# Altium footprint library PcbLib1.PcbLib: 202 footprints (part 8 of 13)
Each footprint in its own frame and in the unit in brackets; x right, y up, seen from the top. Pads: shape width x height; smd on the part's side, far side on the other; paste and mask are expansions set on the pad; w line width, h text height; cw(c..) or ccw(c..) is an arc to the next point about the centre after c.
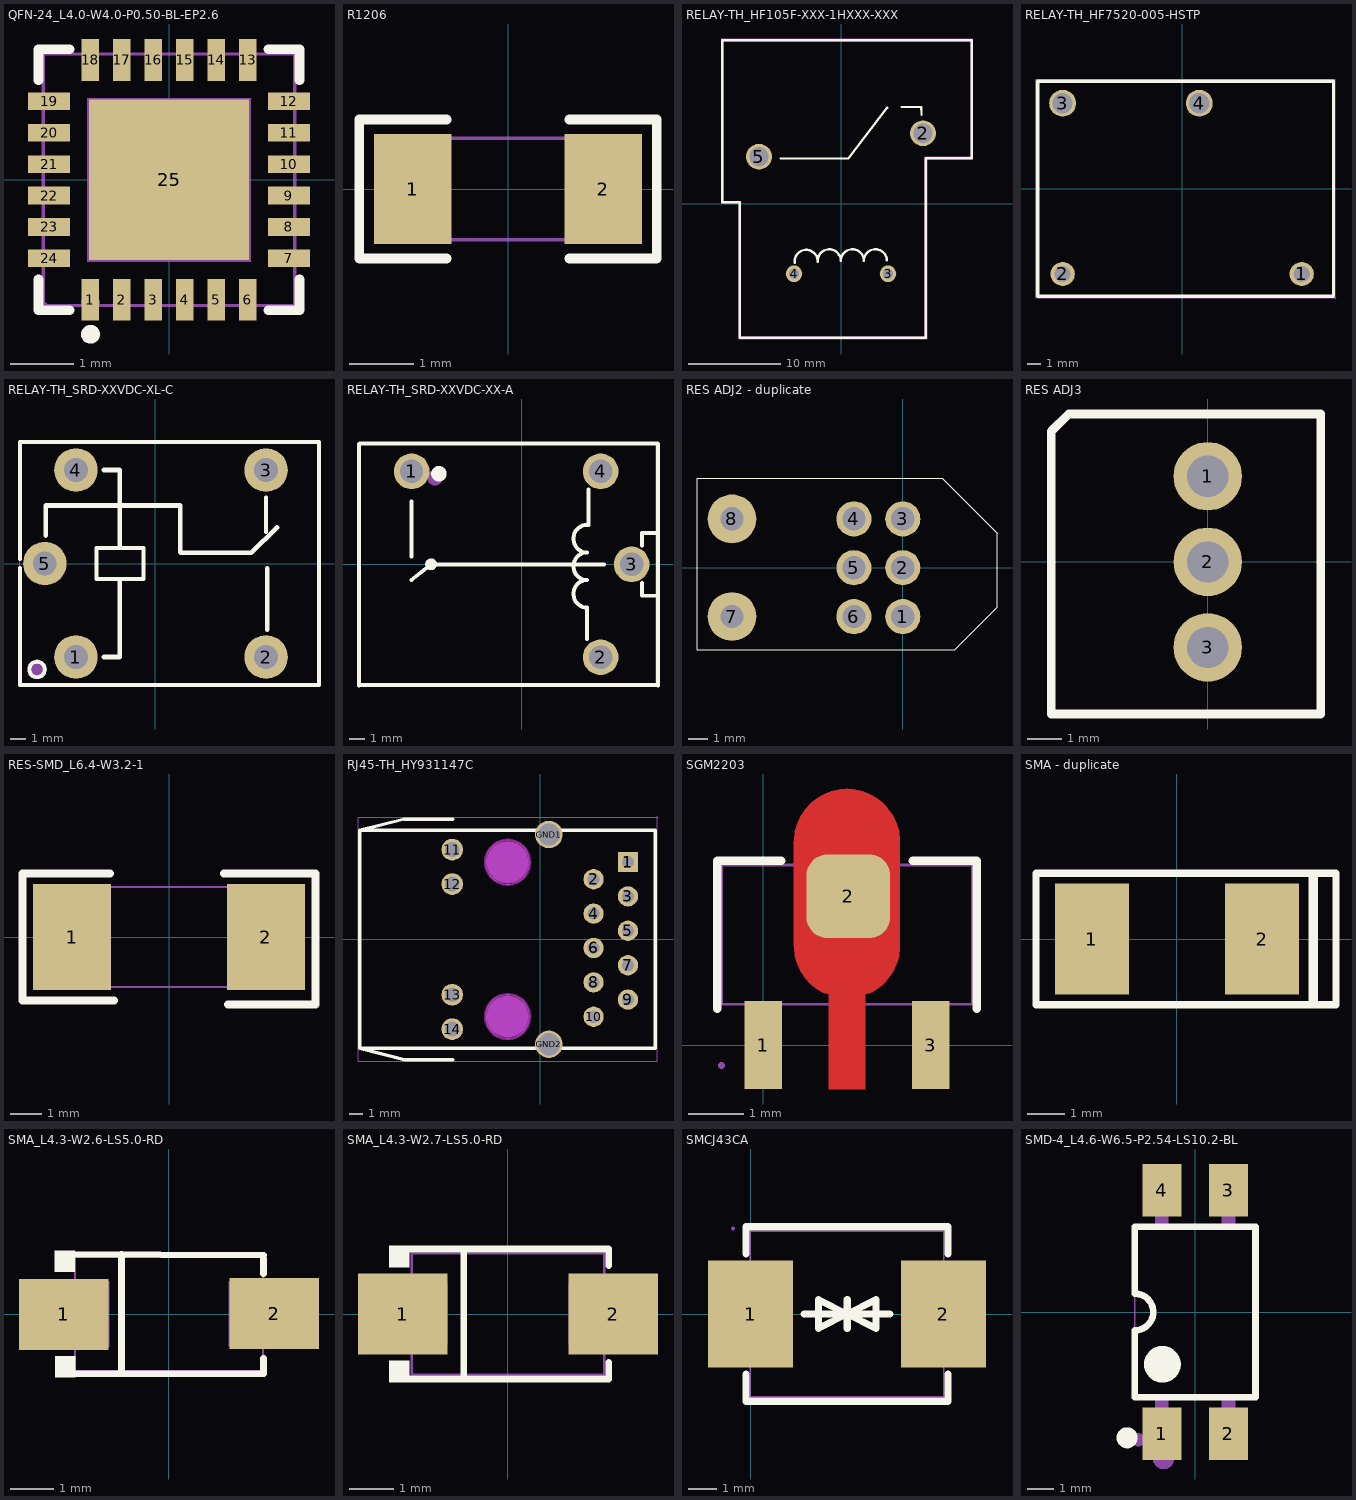
[diagram p7: the footprints below, top view; thin cyan lines are the x and y axes]

## QFN-24_L4.0-W4.0-P0.50-BL-EP2.6 [mm]
pads (25):
  rect 0.28x0.665 smd paste-100 mask+0.05: 1(-1.25,-1.908) 2(-0.75,-1.908) 3(-0.25,-1.908) 4(0.25,-1.908) 5(0.75,-1.908) 6(1.25,-1.908) 13(1.25,1.908) 14(0.75,1.908) 15(0.25,1.908) 16(-0.25,1.908) 17(-0.75,1.908) 18(-1.25,1.908)
  rect 0.665x0.28 smd paste-100 mask+0.05: 7(1.908,-1.25) 8(1.908,-0.75) 9(1.908,-0.25) 10(1.908,0.25) 11(1.908,0.75) 12(1.908,1.25) 19(-1.908,1.25) 20(-1.908,0.75) 21(-1.908,0.25) 22(-1.908,-0.25) 23(-1.908,-0.75) 24(-1.908,-1.25)
  rect 2.55x2.55 smd paste-100 mask+0.05: 25(0,0)
Top Overlay:
  circle w0.15: c-1.25,-2.458 r0.075
  lines w0.152: -2.076,-1.58 -2.076,-2.076 -1.58,-2.076 ; -2.076,1.58 -2.076,2.076 -1.58,2.076 ; 1.58,-2.076 2.076,-2.076 2.076,-1.58 ; 1.58,2.076 2.076,2.076 2.076,1.58
Top Paste:
  region: -1.575,-1.39 -1.575,-1.11 -2.24,-1.11 -2.24,-1.39
  region: -1.575,-0.89 -1.575,-0.61 -2.24,-0.61 -2.24,-0.89
  region: -1.575,-0.39 -1.575,-0.11 -2.24,-0.11 -2.24,-0.39
  region: -1.575,0.11 -1.575,0.39 -2.24,0.39 -2.24,0.11
  region: -1.575,0.61 -1.575,0.89 -2.24,0.89 -2.24,0.61
  region: -1.575,1.11 -1.575,1.39 -2.24,1.39 -2.24,1.11
  region: -1.39,2.24 -1.39,1.575 -1.11,1.575 -1.11,2.24
  region: -0.89,2.24 -0.89,1.575 -0.61,1.575 -0.61,2.24
  region: -0.39,2.24 -0.39,1.575 -0.11,1.575 -0.11,2.24
  region: 0.11,2.24 0.11,1.575 0.39,1.575 0.39,2.24
  region: 0.61,2.24 0.61,1.575 0.89,1.575 0.89,2.24
  region: 1.11,2.24 1.11,1.575 1.39,1.575 1.39,2.24
  region: 2.24,1.11 2.24,1.39 1.575,1.39 1.575,1.11
  region: 2.24,0.61 2.24,0.89 1.575,0.89 1.575,0.61
  region: 2.24,0.11 2.24,0.39 1.575,0.39 1.575,0.11
  region: 2.24,-0.39 2.24,-0.11 1.575,-0.11 1.575,-0.39
  region: 2.24,-0.89 2.24,-0.61 1.575,-0.61 1.575,-0.89
  region: 2.24,-1.39 2.24,-1.11 1.575,-1.11 1.575,-1.39
  region: 1.11,-2.24 1.11,-1.575 1.39,-1.575 1.39,-2.24
  region: 0.61,-2.24 0.61,-1.575 0.89,-1.575 0.89,-2.24
  region: 0.11,-2.24 0.11,-1.575 0.39,-1.575 0.39,-2.24
  region: -0.39,-2.24 -0.39,-1.575 -0.11,-1.575 -0.11,-2.24
  region: -0.89,-2.24 -0.89,-1.575 -0.61,-1.575 -0.61,-2.24
  region: -1.39,-2.24 -1.39,-1.575 -1.11,-1.575 -1.11,-2.24
  region: -1.02,1.02 1.02,1.02 1.02,-1.02 -1.02,-1.02
Mechanical 6:
  circle w0.15: c-1.25,-1.958 r0.075
Mechanical 15:
  region: -1.94,-2 -1.941,-1.976 -1.976,-1.942 -2.024,-1.942 -2.059,-1.976 -2.06,-2 -2.059,-2.024 -2.024,-2.059 -1.976,-2.059 -1.941,-2.024
  region: -1.37,-2 -1.37,-1.6 -1.13,-1.6 -1.13,-2
  region: -0.87,-2 -0.87,-1.6 -0.63,-1.6 -0.63,-2
  region: -0.37,-2 -0.37,-1.6 -0.13,-1.6 -0.13,-2
  region: 0.13,-2 0.13,-1.6 0.37,-1.6 0.37,-2
  region: 0.63,-2 0.63,-1.6 0.87,-1.6 0.87,-2
  region: 1.13,-2 1.13,-1.6 1.37,-1.6 1.37,-2
  region: 1.6,-1.37 1.6,-1.13 2,-1.13 2,-1.37
  region: 1.6,-0.87 1.6,-0.63 2,-0.63 2,-0.87
  region: 1.6,-0.37 1.6,-0.13 2,-0.13 2,-0.37
  region: 1.6,0.13 1.6,0.37 2,0.37 2,0.13
  region: 1.6,0.63 1.6,0.87 2,0.87 2,0.63
  region: 1.6,1.13 1.6,1.37 2,1.37 2,1.13
  region: 1.13,2 1.13,1.6 1.37,1.6 1.37,2
  region: 0.63,2 0.63,1.6 0.87,1.6 0.87,2
  region: 0.13,2 0.13,1.6 0.37,1.6 0.37,2
  region: -0.37,2 -0.37,1.6 -0.13,1.6 -0.13,2
  region: -0.87,2 -0.87,1.6 -0.63,1.6 -0.63,2
  region: -1.37,2 -1.37,1.6 -1.13,1.6 -1.13,2
  region: -1.6,1.13 -1.6,1.37 -2,1.37 -2,1.13
  region: -1.6,0.63 -1.6,0.87 -2,0.87 -2,0.63
  region: -1.6,0.13 -1.6,0.37 -2,0.37 -2,0.13
  region: -1.6,-0.37 -1.6,-0.13 -2,-0.13 -2,-0.37
  region: -1.6,-0.87 -1.6,-0.63 -2,-0.63 -2,-0.87
  region: -1.6,-1.37 -1.6,-1.13 -2,-1.13 -2,-1.37
  region: -1.3,1.3 1.3,1.3 1.3,-1.3 -1.3,-1.3
  lines w0.051: -2,-2 -2,2 2,2 2,-2 -2,-2

## R1206 [mm]
pads (2):
  rect 1.208x1.701 smd paste-100 mask+0.051: 1(-1.479,0) 2(1.479,0)
Top Overlay:
  lines w0.152: -0.951,-1.079 -2.311,-1.079 -2.311,1.079 -0.951,1.079 ; 0.951,-1.079 2.311,-1.079 2.311,1.079 0.951,1.079
Top Paste:
  region: 0.875,-0.75 0.875,-0.389 0.975,-0.289 1.186,-0.289 1.286,-0.189 1.286,0.189 1.186,0.289 0.975,0.289 0.875,0.389 0.875,0.75 0.975,0.85 1.983,0.85 2.083,0.75 2.083,-0.75 1.983,-0.85 0.975,-0.85
  region: -0.875,-0.75 -0.875,-0.389 -0.975,-0.289 -1.186,-0.289 -1.286,-0.189 -1.286,0.189 -1.186,0.289 -0.975,0.289 -0.875,0.389 -0.875,0.75 -0.975,0.85 -1.983,0.85 -2.083,0.75 -2.083,-0.75 -1.983,-0.85 -0.975,-0.85
Mechanical 15:
  region: -1.49,-0.787 -1.491,-0.763 -1.526,-0.729 -1.574,-0.729 -1.609,-0.763 -1.61,-0.788 -1.61,-0.787 -1.609,-0.812 -1.574,-0.846 -1.526,-0.846 -1.491,-0.812
  region: -1.55,-0.788 -1.55,0.788 -1.1,0.788 -1.1,-0.788
  region: 1.55,-0.788 1.55,0.788 1.1,0.788 1.1,-0.788
  lines w0.051: -1.55,-0.788 -1.55,0.788 1.55,0.788 1.55,-0.788 -1.55,-0.788

## RELAY-TH_HF105F-XXX-1HXXX-XXX [mm]
pads (4):
  round 2.8 hole 2.1: 2(8.9,7.62) 5(-8.9,5.08)
  round 1.8 hole 1.1: 3(5.1,-7.62) 4(-5.1,-7.62)
Top Overlay:
  lines w0.254: -6.528,4.88 0.82,4.9 5,10.38 ; -5.024,-6.437 cw(c-3.778,-6.277) -2.524,-6.338 ; -2.524,-6.239 cw(c-1.274,-6.216) -0.025,-6.14 ; -0.025,-6.239 cw(c1.226,-6.216) 2.474,-6.14 ; 2.474,-6.239 cw(c3.725,-6.216) 4.974,-6.14 ; 6.6,10.48 8.7,10.48 8.738,9.624 ; -12.9,0.12 -12.9,17.72 14.2,17.72 14.2,17.68 14.2,4.92 9.2,4.92 9.21,4.92 9.21,-14.57 -11,-14.57 -11,-14.58 -11,-0.08 -11,0.12 -12.9,0.12
Mechanical 6:
  region: -11.1,-14.7 -11.1,0 -13,0 -13,17.85 14.3,17.85 14.3,17.6 -12.8,17.6 -12.8,0.25 -10.9,0.25 -10.9,-14.45 9.35,-14.45 9.35,-14.7
  region: 9.1,-14.45 9.1,5.05 14.1,5.05 14.1,17.6 14.3,17.6 14.3,4.8 9.35,4.8 9.35,-14.45
Mechanical 15:
  region: -9.525,5.705 -8.275,5.705 -8.275,4.455 -9.525,4.455
  region: 8.15,7.97 9.65,7.97 9.65,7.27 8.15,7.27
  region: 4.75,-7.27 5.45,-7.27 5.45,-7.97 4.75,-7.97
  region: -5.45,-7.27 -4.75,-7.27 -4.75,-7.97 -5.45,-7.97
  region: 14.26,17.72 14.26,17.744 14.225,17.78 14.175,17.78 14.14,17.744 14.14,17.72 14.14,17.695 14.175,17.66 14.225,17.66 14.26,17.695
  lines w0.051: -12.9,0.12 -12.9,17.72 14.2,17.72 14.2,4.92 9.2,4.92 9.2,-14.58 -11,-14.58 -11,0.12 -12.9,0.12

## RELAY-TH_HF7520-005-HSTP [mm]
pads (4):
  round 1.8 hole 1.2: 1(8.89,-6.35) 2(-8.89,-6.35)
  round 2 hole 1.5: 3(-8.89,6.35) 4(1.27,6.35)
Top Overlay:
  lines w0.254: -10.746,-8 11.254,-8 11.254,8 -10.746,8 -10.746,-8
Mechanical 15:
  region: 9.39,-6.35 9.389,-6.251 9.312,-6.07 9.171,-5.931 8.989,-5.856 8.791,-5.856 8.609,-5.931 8.468,-6.07 8.391,-6.251 8.39,-6.35 8.391,-6.449 8.468,-6.63 8.609,-6.769 8.791,-6.844 8.989,-6.844 9.171,-6.769 9.312,-6.63 9.389,-6.449
  region: -8.39,-6.35 -8.391,-6.251 -8.468,-6.07 -8.609,-5.931 -8.791,-5.856 -8.989,-5.856 -9.171,-5.931 -9.312,-6.07 -9.389,-6.251 -9.39,-6.35 -9.389,-6.449 -9.312,-6.63 -9.171,-6.769 -8.989,-6.844 -8.791,-6.844 -8.609,-6.769 -8.468,-6.63 -8.391,-6.449
  region: -8.24,6.35 -8.241,6.479 -8.34,6.717 -8.523,6.899 -8.761,6.997 -9.019,6.997 -9.257,6.899 -9.44,6.717 -9.539,6.479 -9.54,6.35 -9.539,6.221 -9.44,5.983 -9.257,5.801 -9.019,5.703 -8.761,5.703 -8.523,5.801 -8.34,5.983 -8.241,6.221
  region: 1.92,6.35 1.919,6.479 1.82,6.717 1.637,6.899 1.399,6.997 1.141,6.997 0.903,6.899 0.72,6.717 0.621,6.479 0.62,6.35 0.621,6.221 0.72,5.983 0.903,5.801 1.141,5.703 1.399,5.703 1.637,5.801 1.82,5.983 1.919,6.221
  region: 11.441,-8.127 11.44,-8.103 11.405,-8.069 11.357,-8.069 11.322,-8.103 11.321,-8.127 11.322,-8.151 11.357,-8.185 11.405,-8.185 11.44,-8.151
  lines w0.051: -10.873,-8.127 11.381,-8.127 11.381,8.127 -10.873,8.127 -10.873,-8.127

## RELAY-TH_SRD-XXVDC-XL-C [mil]
pads (5):
  round 110 hole 60: 1(-200.8,-236.2) 2(279.5,-236.2) 3(279.5,236.2) 4(-200.8,236.3) 5(-279.5,0)
Top Overlay:
  lines w10: -342.5,-11.6 -342.5,-307.1 413.4,-307.1 413.4,307.1 -342.5,307.1 -342.5,11.6 ; 279.5,79.5 279.5,167.2 ; -318.9,-267.7 -318.5,-271.5 -317.4,-275.2 -315.6,-278.6 -313.2,-281.6 -310.2,-284.1 -306.8,-285.9 -303.1,-287 -299.2,-287.4 -295.4,-287 -291.7,-285.9 -288.3,-284.1 -285.3,-281.6 -282.9,-278.6 -281,-275.2 -279.9,-271.5 -279.5,-267.7 -279.9,-263.8 -281,-260.2 -282.9,-256.7 -285.3,-253.8 -288.3,-251.3 -291.7,-249.5 -295.4,-248.4 -299.2,-248 -303.1,-248.4 -306.8,-249.5 -310.2,-251.3 -313.2,-253.8 -315.6,-256.7 -317.4,-260.2 -318.5,-263.8 -318.9,-267.7 ; -148.6,-39.3 -30.5,-39.3 -30.5,39.4 -148.6,39.4 -148.6,-39.3
  lines w11.8: -276.9,70.9 -276.9,146.8 63.1,146.8 63.1,28.7 64.1,27.7 222.2,27.7 242.2,27.7 ; -130.3,-236.2 -90.3,-236.2 -90.3,-41.4 ; -130.3,236.3 -90.3,236.3 -90.3,41.4 ; 242.1,27.6 307.1,90.9 ; 282.2,-167.6 282.2,-12.3
Mechanical 2:
  lines w19.7: -309,-269 -308.3,-271.6 -306.9,-273.9 -304.9,-275.7 -302.5,-277 -299.9,-277.5 -297.2,-277.3 -294.7,-276.4 -292.5,-274.9 -290.8,-272.8 -289.8,-270.3 -289.4,-267.7 -289.8,-265 -290.8,-262.6 -292.5,-260.5 -294.7,-259 -297.2,-258.1 -299.9,-257.9 -302.5,-258.4 -304.9,-259.7 -306.9,-261.5 -308.3,-263.8 -309,-266.3 -309,-269
Mechanical 6:
  lines w2: -342.5,-307 -342.5,307.1 413.4,307.1 413.4,-307 -342.5,-307
Mechanical 8:
  region: -340.2,-307 -340.6,-308.3 -341.6,-309.2 -342.9,-309.4 -344.1,-308.8 -344.8,-307.7 -344.8,-306.4 -344.1,-305.3 -342.9,-304.7 -341.6,-304.9 -340.6,-305.8
Mechanical 9:
  region: -271.7,21.7 -271.7,-21.6 -287.4,-21.6 -287.4,21.7
  region: 299.2,226.4 259.8,226.4 259.8,246.1 299.2,246.1
  region: 299.2,-246 259.8,-246 259.8,-226.3 299.2,-226.3
  region: -189,236.3 -189.4,233.3 -190.5,230.6 -192.2,228.2 -194.5,226.3 -197.2,225 -200.1,224.5 -203,224.6 -205.8,225.6 -208.3,227.1 -210.4,229.3 -211.8,231.9 -212.5,234.8 -212.5,237.7 -211.8,240.6 -210.4,243.2 -208.3,245.4 -205.8,246.9 -203,247.9 -200.1,248 -197.2,247.5 -194.5,246.2 -192.2,244.3 -190.5,241.9 -189.4,239.2
  region: -189,-236.2 -189.4,-239.1 -190.5,-241.9 -192.2,-244.3 -194.5,-246.2 -197.2,-247.4 -200.1,-248 -203,-247.8 -205.8,-246.9 -208.3,-245.3 -210.4,-243.1 -211.8,-240.5 -212.5,-237.7 -212.5,-234.7 -211.8,-231.8 -210.4,-229.2 -208.3,-227.1 -205.8,-225.5 -203,-224.6 -200.1,-224.4 -197.2,-225 -194.5,-226.2 -192.2,-228.1 -190.5,-230.5 -189.4,-233.3

## RELAY-TH_SRD-XXVDC-XX-A [mm]
pads (4):
  round 2.3 hole 1.5: 1(-7.1,6) 2(5.1,-6) 3(7.1,0) 4(5.1,6)
Top Overlay:
  circle w0.5: c-5.334,5.842 r0.25
  circle w0.254: c-5.842,0 r0.254
  lines w0.254: -10.502,-7.822 -10.502,7.779 ; -10.419,-7.8 8.781,-7.8 ; -10.419,7.8 8.781,7.8 ; -7.113,0.507 -7.113,4.063 ; -7.112,-1.016 -5.842,0 4.642,-0.001 5.334,0 ; 4.23,-4.826 4.23,-2.794 cw(c4.23,-1.905) 4.23,-1.016 cw(c4.23,-0.127) 4.23,0.762 cw(c4.23,1.651) 4.23,2.54 ; 4.318,2.526 4.318,4.826 ; 7.765,-1.21 7.765,-2.032 8.781,-2.032 ; 7.765,1.21 7.765,2.032 8.781,2.032 ; 8.802,-7.822 8.802,7.779
Mechanical 6:
  circle w0.5: c-5.588,5.588 r0.25
Mechanical 15:
  region: -7.6,6.2 -6.6,6.2 -6.6,5.8 -7.6,5.8
  region: 7.3,0.55 7.3,-0.55 6.9,-0.55 6.9,0.55
  region: 5.35,6 5.349,6.049 5.31,6.14 5.24,6.209 5.149,6.246 5.05,6.246 4.959,6.209 4.889,6.14 4.85,6.049 4.85,6 4.85,5.951 4.889,5.86 4.959,5.791 5.05,5.754 5.149,5.754 5.24,5.791 5.31,5.86 5.349,5.951
  region: 5.35,-6 5.349,-5.951 5.31,-5.86 5.24,-5.791 5.149,-5.754 5.05,-5.754 4.959,-5.791 4.889,-5.86 4.85,-5.951 4.85,-6 4.85,-6.049 4.889,-6.14 4.959,-6.209 5.05,-6.246 5.149,-6.246 5.24,-6.209 5.31,-6.14 5.349,-6.049
  region: -10.44,7.8 -10.44,7.825 -10.475,7.86 -10.525,7.86 -10.56,7.825 -10.56,7.8 -10.56,7.775 -10.525,7.74 -10.475,7.74 -10.44,7.775
  lines w0.051: -10.5,-7.8 -10.5,7.8 8.7,7.8 8.7,-7.8 -10.5,-7.8

## RES ADJ2 - duplicate [mm]
pads (8):
  round 1.8 hole 1.2: 1(0,-2.5) 2(0,0) 3(0,2.5) 4(-2.5,2.5) 5(-2.5,0) 6(-2.5,-2.5)
  round 2.5 hole 1.2: 7(-8.75,-2.5) 8(-8.75,2.5)
Top Overlay:
  lines w0.025: -10.541,-4.191 2.667,-4.191 4.826,-2.032 4.826,1.778 2.032,4.572 -10.541,4.572 -10.541,-4.191

## RES ADJ3 [mm]
pads (3):
  round 2 hole 1.2: 1(0,2.5) 2(0,0) 3(0,-2.5)
Top Overlay:
  lines w0.025: -4.572,-4.445 3.302,-4.445 3.302,4.318 -4.064,4.318 -4.572,3.81
  lines w0.254: -4.572,-4.445 -4.572,3.81 -4.064,4.318 3.302,4.318 3.302,-4.445 -4.572,-4.445

## RES-SMD_L6.4-W3.2-1 [mm]
pads (2):
  rect 2.5x3.4 smd: 1(-3.1,0) 2(3.1,0)
Top Overlay:
  lines w0.254: -1.893,2.032 -4.687,2.032 -4.687,-2.032 -1.766,-2.032 ; 1.766,2.032 4.687,2.032 4.687,-2.159 1.893,-2.159
Mechanical 15:
  region: 2.3,1.6 3.2,1.6 3.2,-1.6 2.3,-1.6
  region: -3.2,1.6 -2.3,1.6 -2.3,-1.6 -3.2,-1.6
  region: -3.14,-1.6 -3.141,-1.576 -3.176,-1.542 -3.224,-1.542 -3.259,-1.576 -3.26,-1.6 -3.259,-1.624 -3.224,-1.657 -3.176,-1.657 -3.141,-1.624
  lines w0.051: -3.2,-1.6 -3.2,1.6 3.2,1.6 3.2,-1.6 -3.2,-1.6

## RJ45-TH_HY931147C [mm]
pads (16):
  rect 1.5x1.5 hole 0.9: 1(6.49,5.715)
  round 1.5 hole 0.9: 2(3.95,4.445) 3(6.49,3.175) 4(3.95,1.905) 5(6.49,0.635) 6(3.95,-0.635) 7(6.49,-1.905) 8(3.95,-3.175) 9(6.49,-4.445) 10(3.95,-5.715)
  round 1.6 hole 1.1: 11(-6.49,6.629) 12(-6.49,4.089) 13(-6.49,-4.089) 14(-6.49,-6.629)
  round 2.029 hole 1.631: GND1(0.648,7.747) GND2(0.648,-7.747)
Top Overlay:
  lines w0.254: -6.464,-8.89 -10.02,-8.89 -13.322,-8.052 ; -6.464,8.89 -10.02,8.89 -13.322,8.052 ; -1.13,-8.052 -13.322,-8.052 ; -1.13,8.052 -13.322,8.052 ; 2.172,-8.052 8.522,-8.052 ; 2.172,8.052 8.522,8.052 ; -13.322,-8.052 -13.322,8.052 ; -13.322,-8.052 8.522,-8.052 ; -13.322,-8.052 -13.322,8.052 ; -13.322,8.052 8.522,8.052 ; 8.522,-8.052 8.522,8.052 ; 8.522,-8.052 8.522,8.052
Keep-Out Layer:
  board cut-out: -0.775,-5.7 -0.775,-5.54 -0.838,-5.226 -0.96,-4.93 -1.138,-4.664 -1.364,-4.438 -1.631,-4.26 -1.926,-4.137 -2.24,-4.075 -2.56,-4.075 -2.874,-4.137 -3.17,-4.26 -3.436,-4.438 -3.663,-4.664 -3.84,-4.93 -3.963,-5.226 -4.025,-5.54 -4.025,-5.7 -4.025,-5.86 -3.963,-6.174 -3.84,-6.47 -3.663,-6.736 -3.436,-6.962 -3.17,-7.14 -2.874,-7.262 -2.56,-7.325 -2.24,-7.325 -1.926,-7.262 -1.631,-7.14 -1.364,-6.962 -1.138,-6.736 -0.96,-6.47 -0.838,-6.174 -0.775,-5.86
  board cut-out: -0.775,5.7 -0.775,5.86 -0.838,6.174 -0.96,6.47 -1.138,6.736 -1.364,6.962 -1.631,7.14 -1.926,7.262 -2.24,7.325 -2.56,7.325 -2.874,7.262 -3.17,7.14 -3.436,6.962 -3.663,6.736 -3.84,6.47 -3.963,6.174 -4.025,5.86 -4.025,5.7 -4.025,5.54 -3.963,5.226 -3.84,4.93 -3.663,4.664 -3.436,4.438 -3.17,4.26 -2.874,4.137 -2.56,4.075 -2.24,4.075 -1.926,4.137 -1.631,4.26 -1.364,4.438 -1.138,4.664 -0.96,4.93 -0.838,5.226 -0.775,5.54
Mechanical 1:
  circle w0.025: c-2.4,-5.7 r1.625
  circle w0.025: c-2.4,5.7 r1.625
Mechanical 15:
  drawing of 23 lines, arcs and shapes, not listed
Multi-Layer keep-out:
  circle w0.254: c-2.4,-5.7 r1.625
  circle w0.254: c-2.4,5.7 r1.625

## SGM2203 [mm]
pads (3):
  rect 0.672x1.575 smd mask+0.051: 1(0,0) 3(3,0)
  rrect50% 1.5x1.5 smd: 2(1.524,2.667)
Top Layer:
  region: 2.45,3.639 2.45,1.785 2.449,1.741 2.446,1.696 2.44,1.652 2.433,1.608 2.424,1.565 2.412,1.521 2.399,1.479 2.384,1.437 2.366,1.396 2.347,1.356 2.326,1.317 2.303,1.278 2.279,1.241 2.252,1.205 2.224,1.171 2.195,1.138 2.164,1.106 2.131,1.075 2.097,1.046 2.062,1.019 2.025,0.994 1.988,0.97 1.949,0.948 1.909,0.928 1.83,0.91 1.83,-0.788 1.17,-0.788 1.17,0.91 1.09,0.928 1.051,0.948 1.012,0.97 0.974,0.994 0.938,1.019 0.903,1.046 0.869,1.075 0.836,1.106 0.805,1.138 0.775,1.171 0.747,1.205 0.721,1.241 0.696,1.278 0.673,1.317 0.652,1.356 0.633,1.396 0.616,1.437 0.601,1.479 0.587,1.521 0.576,1.565 0.566,1.608 0.559,1.652 0.554,1.696 0.551,1.741 0.55,1.785 0.55,3.639 0.551,3.684 0.554,3.728 0.559,3.773 0.566,3.817 0.576,3.86 0.587,3.903 0.601,3.946 0.616,3.987 0.633,4.029 0.652,4.069 0.673,4.108 0.696,4.146 0.721,4.183 0.747,4.219 0.775,4.254 0.805,4.287 0.836,4.319 0.869,4.349 0.903,4.378 0.938,4.405 0.974,4.431 1.012,4.455 1.051,4.477 1.09,4.497 1.131,4.515 1.173,4.531 1.215,4.546 1.258,4.558 1.301,4.568 1.345,4.577 1.389,4.583 1.433,4.587 1.478,4.589 1.522,4.589 1.567,4.587 1.611,4.583 1.655,4.577 1.699,4.568 1.742,4.558 1.785,4.546 1.827,4.531 1.869,4.515 1.909,4.497 1.949,4.477 1.988,4.455 2.025,4.431 2.062,4.405 2.097,4.378 2.131,4.349 2.164,4.319 2.195,4.287 2.224,4.254 2.252,4.219 2.279,4.183 2.303,4.146 2.326,4.108 2.347,4.069 2.366,4.029 2.384,3.987 2.399,3.946 2.412,3.903 2.424,3.86 2.433,3.817 2.44,3.773 2.446,3.728 2.449,3.684
Top Overlay:
  lines w0.152: -0.826,0.654 -0.826,3.306 0.323,3.306 ; 2.677,3.306 3.826,3.306 3.826,0.654
Mechanical 6:
  circle w0.3: c0,-0.359 r0.15
Mechanical 15:
  region: 3.25,0.732 3.25,-0.368 2.75,-0.368 2.75,0.732
  region: 0.25,0.732 0.25,-0.368 -0.25,-0.368 -0.25,0.732
  region: 1.24,0.917 1.24,-0.368 1.76,-0.368 1.76,0.917 2.363,1.492 2.363,3.356 1.788,3.827 1.213,3.827 0.638,3.356 0.638,1.492
  region: -0.75,-0.428 -0.725,-0.428 -0.69,-0.393 -0.69,-0.343 -0.725,-0.308 -0.75,-0.308 -0.775,-0.308 -0.81,-0.343 -0.81,-0.393 -0.775,-0.428
  lines w0.051: -0.75,0.73 -0.75,3.23 3.75,3.23 3.75,0.73 -0.75,0.73

## SMA - duplicate [mm]
pads (2):
  rect 2x3 smd: 1(-2.3,0) 2(2.3,0)
Top Overlay:
  lines w0.2: -3.81,-1.778 -3.81,0.49 -3.81,1.778 4.3,1.778 4.3,-1.778 -3.81,-1.778
  lines w0.254: 3.683,-1.651 3.683,1.651

## SMA_L4.3-W2.6-LS5.0-RD [mm]
pads (2):
  rect 2.047x1.621 smd: 1(-2.403,-0.01) 2(2.405,0.01)
Top Overlay:
  region: -2.144,-1.44 -2.144,-0.963 -2.601,-0.963 -2.601,-1.44
  region: -2.156,1.44 -2.156,0.963 -2.614,0.963 -2.614,1.44
  lines w0.152: -2.525,1.364 2.159,1.346 ; -2.502,-1.364 2.167,-1.364 ; -1.085,-1.364 -1.085,1.364 ; 2.159,-1.364 2.159,-1.013 ; 2.159,0.919 2.159,1.27
Mechanical 2:
  region: 2.144,-0.645 2.144,0.643 1.951,0.643 1.951,-0.645
  region: 2.433,-0.097 2.433,0.097 1.661,0.097 1.661,-0.097
  region: -2.431,-0.097 -2.431,0.097 -1.659,0.097 -1.659,-0.097
Mechanical 6:
  lines w0.051: -2.149,-1.3 2.151,-1.3 2.151,1.3 -2.149,1.3 -2.149,-1.3
Mechanical 8:
  region: -2.438,-1.3 -2.449,-1.333 -2.474,-1.354 -2.507,-1.359 -2.537,-1.346 -2.558,-1.318 -2.558,-1.283 -2.537,-1.255 -2.507,-1.242 -2.474,-1.245 -2.449,-1.267
Mechanical 9:
  region: -2.499,0.749 -2.499,-0.749 -1.359,-0.749 -1.359,0.749
  region: 2.499,-0.749 2.499,0.749 1.361,0.749 1.361,-0.749

## SMA_L4.3-W2.7-LS5.0-RD [mm]
pads (2):
  rect 2x1.8 smd: 1(-2.35,0) 2(2.35,0)
Top Overlay:
  region: -2.2,1.525 -2.2,1.047 -2.657,1.047 -2.657,1.525
  region: -2.2,-1.525 -2.2,-1.047 -2.657,-1.047 -2.657,-1.525
  lines w0.152: -2.3,-1.45 2.25,-1.45 2.25,-1.08 ; -2.3,1.45 2.25,1.45 2.25,1.08 2.25,1.142 ; -0.989,-1.45 -0.989,1.45
Mechanical 6:
  region: -1.723,0.11 -3.01,0.11 -3.01,-0.083 -1.723,-0.083
  region: 3.035,0.06 1.748,0.06 1.748,-0.133 3.035,-0.133
  region: 2.49,-0.67 2.49,0.617 2.297,0.617 2.297,-0.67
Mechanical 15:
  region: 1.36,-0.7 1.36,0.7 2.5,0.7 2.5,-0.7
  region: -1.36,0.7 -1.36,-0.7 -2.5,-0.7 -2.5,0.7
  region: -2.44,-1.35 -2.441,-1.326 -2.476,-1.291 -2.525,-1.291 -2.56,-1.326 -2.56,-1.35 -2.56,-1.374 -2.525,-1.409 -2.476,-1.409 -2.441,-1.375
  lines w0.051: -2.15,-1.35 2.15,-1.35 2.15,1.35 -2.15,1.35 -2.15,-1.35

## SMCJ43CA [mm]
pads (2):
  rect 3.03x3.82 smd mask+0.051: 1(0,0) 2(6.87,0)
Top Overlay:
  lines w0.254: -0.165,-2.141 -0.165,-3.11 7.035,-3.11 7.035,-2.141 ; -0.165,2.141 -0.165,3.11 7.035,3.11 7.035,2.141 ; 1.911,0 3.943,0 ; 2.939,0 4.971,0 ; 3.435,-0.508 3.435,0.508 3.435,0 ; 3.447,0.508 3.447,-0.508 3.447,0 ; 3.435,0 2.419,0.508 2.419,-0.508 3.435,0 ; 3.447,0 4.463,0.508 4.463,-0.508 3.447,0
Mechanical 15:
  region: 6.247,1.525 7.387,1.525 7.387,-1.525 6.247,-1.525
  region: -0.514,1.525 0.626,1.525 0.626,-1.525 -0.514,-1.525
  region: -0.569,3.048 -0.569,3.073 -0.604,3.108 -0.654,3.108 -0.689,3.073 -0.689,3.048 -0.689,3.023 -0.654,2.988 -0.604,2.988 -0.569,3.023
  lines w0.051: -0.015,-2.95 -0.015,2.95 6.885,2.95 6.885,-2.95 -0.015,-2.95

## SMD-4_L4.6-W6.5-P2.54-LS10.2-BL [mm]
pads (4):
  rect 1.5x2 smd: 1(-1.27,-4.65) 2(1.27,-4.65) 3(1.27,4.65) 4(-1.27,4.65)
Top Overlay:
  lines w0.254: -2.301,-0.701 ccw(c-2.301,-0.001) -2.3,0.7 -2.3,3.25 2.3,3.25 2.3,-3.25 -2.3,-3.25 -2.3,-0.7
  lines w0.4: -2.8,-4.8 ccw(c-2.6,-4.799) -2.8,-4.797
  lines w0.7: -1.6,-1.999 ccw(c-1.25,-1.996) -1.6,-1.994
Mechanical 6:
  circle w0.4: c-1.208,-5.6 r0.2
Mechanical 15:
  region: -1.919,-4.873 -1.92,-4.823 -1.96,-4.732 -2.031,-4.662 -2.123,-4.625 -2.223,-4.625 -2.315,-4.662 -2.386,-4.732 -2.426,-4.823 -2.427,-4.873 -2.426,-4.923 -2.386,-5.014 -2.315,-5.084 -2.223,-5.121 -2.123,-5.121 -2.031,-5.084 -1.96,-5.014 -1.92,-4.923
  region: -1.52,3.19 -1.52,4.51 -1.02,4.51 -1.02,3.19
  region: -1.52,4.5 -1.52,5 -1.02,5 -1.02,4.5
  region: 1.02,3.19 1.02,4.51 1.52,4.51 1.52,3.19
  region: 1.02,4.5 1.02,5 1.52,5 1.52,4.5
  region: 1.02,-4.51 1.02,-3.19 1.52,-3.19 1.52,-4.51
  region: 1.02,-5 1.02,-4.5 1.52,-4.5 1.52,-5
  region: -1.52,-4.51 -1.52,-3.19 -1.02,-3.19 -1.02,-4.51
  region: -1.52,-5 -1.52,-4.5 -1.02,-4.5 -1.02,-5
  lines w0.051: -2.3,-3.25 -2.3,3.25 2.3,3.25 2.3,-3.25 -2.3,-3.25